# Altium schematic symbol library SIM5051-6-0-18-00-A.SchLib: 1 symbol
Pins are listed as number, name and electrical type; pins without a type are passive.

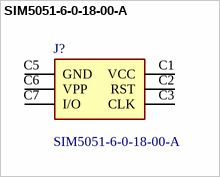
[diagram p0: symbol SIM5051-6-0-18-00-A]

## SIM5051-6-0-18-00-A
designator J?
Memory Card Connectors SIM Card ConnectorHinged Type, 6 Pin, SMT, 1.85mm Profile; Manufacturer_Name: GCT (GLOBAL CONNECTOR TECHNOLOGY); Geometry.Height: 2mm; Manufacturer_Part_Number: SIM5051-6-0-18-00-A; Mouser Part Number: 640-SIM5051601800A; Mouser Price/Stock: https://www.mouser.co.uk/ProductDetail/GCT/SIM5051-6-0-18-00-A?qs=KUoIvG%2F9IlalctivsT92PA%3D%3D; Arrow Part Number: *; Arrow Price/Stock: *; Datasheet Link: https://gct.co/files/drawings/sim5051.pdf?v=26939cdf-9a60-4a6d-ba40-87c2268deb55
footprint SIM5051601800A
pins: C1 VCC, C2 RST, C3 CLK, C5 GND, C6 VPP, C7 I/O